# Altium schematic symbol library Nitrous.SchLib: 6 symbols
Pins are listed as number, name and electrical type; pins without a type are passive.

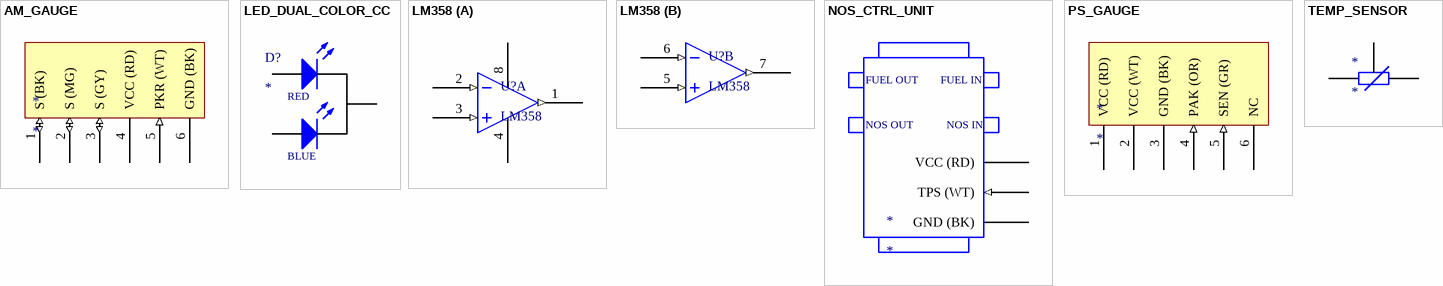
[diagram p0: symbols AM_GAUGE to TEMP_SENSOR]

## AM_GAUGE
designator *
pins: 1 S (BK) (io), 2 S (MG) (io), 3 S (GY) (io), 4 VCC (RD) (power), 5 PKR (WT) (in), 6 GND (BK) (power)

## LED_DUAL_COLOR_CC
designator D?
Red/Blue LED; PartNo: XLMDKCBD59M
pins: 1 A1, 2 K, 3 A2
text: RED; BLUE

## LM358
designator U?
footprint DIP-8 (DIP; 8 Leads; Row Spacing 7.62 mm; Pitch 2.54 mm)
part A pins: 1 (out), 2 (in) "-", 3 (in) "+", 4 (power) "Vcc", 8 (power) "Vcc"
part B pins: 5 (in) "+", 6 (in) "-", 7 (out)

## NOS_CTRL_UNIT
designator *
pins: 1 GND (BK) (power), 2 TPS (WT) (in), 3 VCC (RD) (power)
text: FUEL OUT; FUEL IN; NOS OUT; NOS IN

## PS_GAUGE
designator *
pins: 1 VCC (RD) (power) "12V ACC", 2 VCC (WT) (power) "12V ACC", 3 GND (BK) (power) "GND", 4 PAK (OR) (in) "Parking lamp", 5 SEN (GR) (in) "Sensor", 6 NC (hiz)

## TEMP_SENSOR
designator *
pins: 1, 2, 3